# EAGLE library part NL17SZ74 (library on-semi)
IC D-TYPE POS TRG SNGL US8
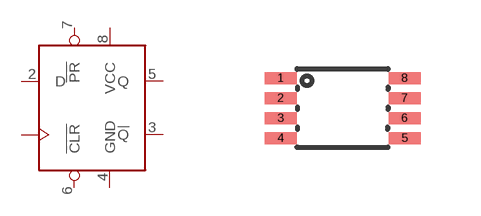
[diagram p5: symbol with the pads of VFSOP-8; footprint VFSOP-8]

Designator prefix U

## NL17SZ74 (DIGIKEY: NL17SZ74USGOSCT-ND; P1I: o)  [VFSOP-8]
1  CP
2  D
3  !Q
4  GND
5  Q
6  !CLR
7  !PR
8  VCC

## Footprint VFSOP-8 (pad centres in mm)
smd 0.8 x 0.3: 1 -1.55,0.75; 2 -1.55,0.25; 3 -1.55,-0.25; 4 -1.55,-0.75; 5 1.55,-0.75; 6 1.55,-0.25; 7 1.55,0.25; 8 1.55,0.75